# Altium footprint library RC0603FR-073K3L.PcbLib: 3 footprints
Each footprint in its own frame and in the unit in brackets; x right, y up, seen from the top. Pads: shape width x height; smd on the part's side, far side on the other; paste and mask are expansions set on the pad; w line width, h text height; cw(c..) or ccw(c..) is an arc to the next point about the centre after c.
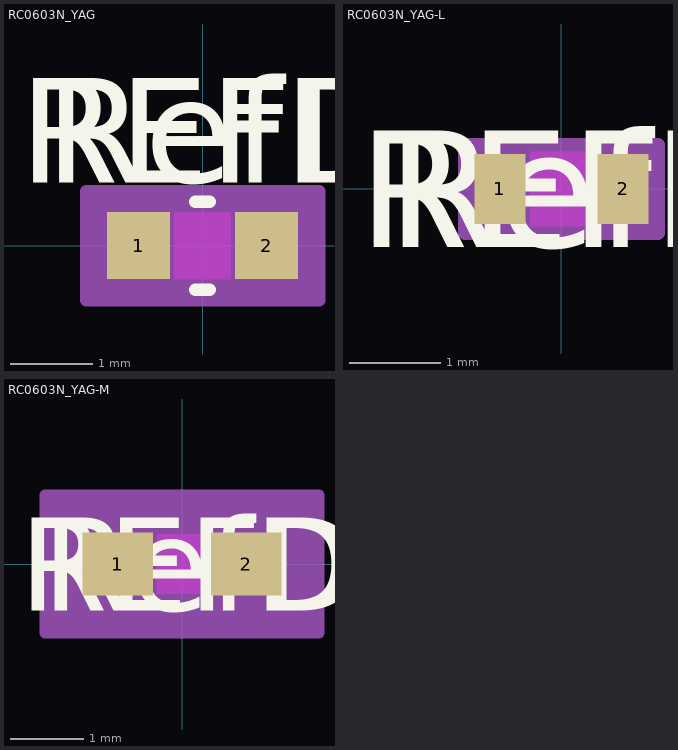
[diagram p0: the footprints below, top view; thin cyan lines are the x and y axes]

## RC0603N_YAG [mil]
pads (2):
  rect 30x32 smd paste+0 mask+0: 1(-30.5,0) 2(30.5,0)
Top Layer keep-out:
  region: -13.5,-14 -13.5,14 13.5,14 13.5,-14
Top Overlay:
  lines w6: -3.39,-21 3.39,-21 ; -3.39,21 3.39,21
  text "REFDES" at -87.5,30 h50
  text "RefDes" at -75,30 h50
Keep-Out Layer:
  region: -13.5,-16 -13.5,16 13.5,16 13.5,-16
Mechanical 13:
  lines w1: -31.5,-16 -31.5,16 ; -31.5,-16 31.5,-16 ; -31.5,-16 -15.5,-16 -15.5,16 -31.5,16 ; -31.5,-16 -31.5,16 ; -31.5,16 31.5,16 ; 31.5,-16 31.5,16 ; 31.5,-16 31.5,16 ; 31.5,-16 15.5,-16 15.5,16 31.5,16
  text "RefDes2" at -87.5,30 h50
Mechanical 15:
  region: 55.5,-26 -55.5,-26 -55.5,26 55.5,26
  lines w6: -55.5,-26 55.5,-26 55.5,26 -55.5,26 -55.5,-26
3D body "RC0603N_YAG.step": height 27.99, standoff 0, extent -31.5,-15.98 31.5,15.98

## RC0603N_YAG-L [mil]
pads (2):
  rect 22x30 smd paste+0 mask+0: 1(-26.5,0) 2(26.5,0)
Top Layer keep-out:
  region: -13.5,-14 -13.5,14 13.5,14 13.5,-14
Top Overlay:
  text "RefDes" at -75,-25 h50
  text "REFDES" at -87.5,-25 h50
Keep-Out Layer:
  region: -13.5,-16 -13.5,16 13.5,16 13.5,-16
Mechanical 13:
  lines w1: -31.5,-16 -31.5,16 ; -31.5,-16 -15.5,-16 -15.5,16 -31.5,16 ; -31.5,-16 31.5,-16 ; -31.5,-16 -31.5,16 ; -31.5,16 31.5,16 ; 31.5,-16 15.5,-16 15.5,16 31.5,16 ; 31.5,-16 31.5,16 ; 31.5,-16 31.5,16
  text "RefDes2" at -87.5,-25 h50
Mechanical 15:
  region: 41.5,-19 -41.5,-19 -41.5,19 41.5,19
  lines w6: -41.5,-19 -41.5,19 41.5,19 41.5,-19 -41.5,-19
3D body "RC0603N_YAG.step": height 27.99, standoff 0, extent -31.5,-15.98 31.5,15.98

## RC0603N_YAG-M [mil]
pads (2):
  rect 38x34 smd paste+0 mask+0: 1(-34.5,0) 2(34.5,0)
Top Layer keep-out:
  region: -13.5,-14 -13.5,14 13.5,14 13.5,-14
Top Overlay:
  text "RefDes" at -75,-25 h50
  text "REFDES" at -87.5,-25 h50
Keep-Out Layer:
  region: -13.5,-16 -13.5,16 13.5,16 13.5,-16
Mechanical 13:
  lines w1: -31.5,-16 -31.5,16 ; -31.5,-16 -15.5,-16 -15.5,16 -31.5,16 ; -31.5,-16 31.5,-16 ; -31.5,-16 -31.5,16 ; -31.5,16 31.5,16 ; 31.5,-16 15.5,-16 15.5,16 31.5,16 ; 31.5,-16 31.5,16 ; 31.5,-16 31.5,16
  text "RefDes2" at -87.5,-25 h50
Mechanical 15:
  region: 73.5,-37 -73.5,-37 -73.5,37 73.5,37
  lines w6: -73.5,-37 -73.5,37 73.5,37 73.5,-37 -73.5,-37
3D body "RC0603N_YAG.step": height 27.99, standoff 0, extent -31.5,-15.98 31.5,15.98